# Altium footprint library PCB.PcbLib: 24 footprints (part 2 of 2)
Each footprint in its own frame and in the unit in brackets; x right, y up, seen from the top. Pads: shape width x height; smd on the part's side, far side on the other; paste and mask are expansions set on the pad; w line width, h text height; cw(c..) or ccw(c..) is an arc to the next point about the centre after c.
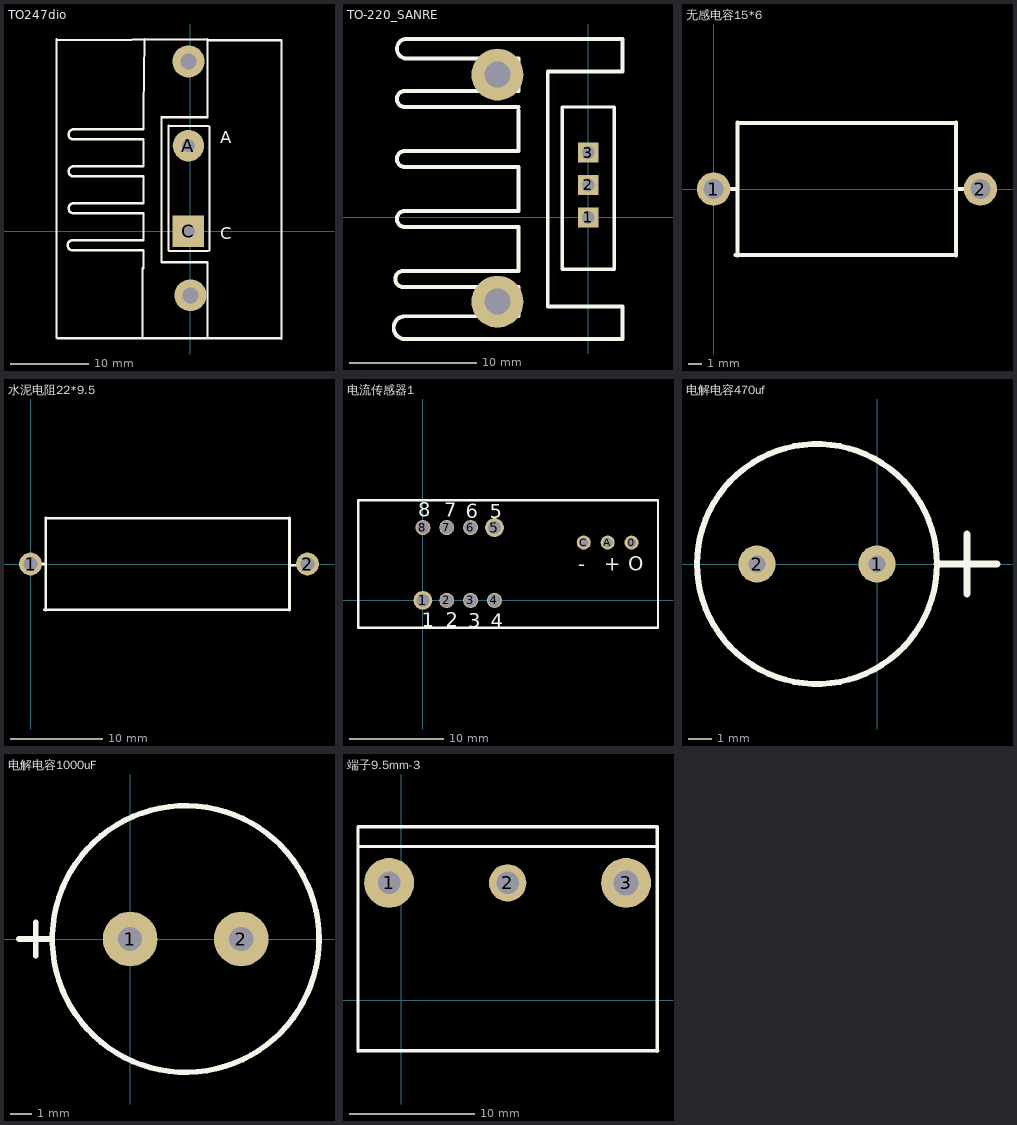
[diagram p1: the footprints below, top view; thin cyan lines are the x and y axes]

## TO247dio [mil]
pads (4):
  round 157.48 hole 62.99: A(-10,428.35)
  rect 157.48x157.48 hole 62.99: C(-10,0)
  round 160 hole 80: ""(-10,850) ""(0,-320)
Top Overlay:
  lines w10: -670,-533.86 -670,962.2 ; -110,-95 -110,530 ; -108.43,-98.43 88.43,-98.43 ; -108.43,526.77 88.43,526.77 ; 95,-95 95,525 ; 455,-538.86 455,957.2
  lines w12: -670,955 85,960 85,570 -145,570 -145,-155 85,-155 85,-535 -665,-535 ; -590,-95 cw(c-590,-70) -590,-45 -235,-45 -235,90 -585,90 cw(c-585,115) -585,140 -235,140 -235,275 -585,275 cw(c-585,300) -585,325 -235,325 -235,450 ; -590,510 -235,510 -235,610 -230,960 ; -585,-95 -240,-95 ; -585,510 ccw(c-585,485) -585,460 -235,460 ; -240,-525 -240,-185 ; -235,-185 -235,-95 ; 80,-535 453.78,-535 ; 85,955 453.78,955
  text "A" at 150,440 h60
  text "C" at 150,-40 h60

## TO-220_SANRE [mil]
pads (5):
  rect 62x62 hole 39.37: 1(0,0) 2(0,100) 3(0,200)
  round 160 hole 80: ""(-280,-260) ""(-280,440)
Top Overlay:
  lines w10: -80,-160 -80,340 80,340 80,-160 -80,-160
  lines w12: -570,-215 cw(c-570,-190) -570,-165 -215,-165 -215,-30 -565,-30 cw(c-565,-5) -565,20 -215,20 -215,155 -565,155 cw(c-565,180) -565,205 -215,205 -215,330 ; -570,390 -215,390 -215,490 -560,490 cw(c-560,520) -560,550 ; -565,-215 -220,-215 ; -565,390 ccw(c-565,365) -565,340 -215,340 ; -555,550 105,550 105,450 -125,450 -125,-275 105,-275 105,-375 -565,-375 cw(c-565,-340) -565,-305 -220,-305 ; -215,-305 -215,-215

## 无感电容15*6 [mm]
pads (2):
  round 2.5 hole 1.5: 1(0,0) 2(20,0)
Top Overlay:
  lines w0.305: 1.016,0 1.778,0 ; 1.651,-4.953 18.034,-4.953 ; 1.778,-5 1.778,5 ; 1.778,4.953 18.161,4.953 ; 18.161,-5 18.161,5 ; 18.161,0 18.923,0

## 水泥电阻22*9.5 [mm]
pads (2):
  round 2.5 hole 1.5: 1(0,0) 2(30,0)
Top Overlay:
  lines w0.305: 0.889,0 1.651,0 ; 1.524,-4.953 27.94,-4.953 ; 1.651,-5 1.651,5 ; 1.651,4.953 28.067,4.953 ; 28.067,-5 28.067,5 ; 28.067,-0.127 28.829,-0.127

## 电流传感器1 [mm]
pads (11):
  round 1.5 hole 1: 0(22.2,6.15) A(19.66,6.15) C(17.12,6.15)
  round 2 hole 1.4: 1(0,0) 5(7.62,7.75)
  round 1.6 hole 1.4: 2(2.54,0) 3(5.08,0) 4(7.62,0) 6(5.08,7.75) 7(2.54,7.75) 8(0,7.75)
Top Overlay:
  lines w0.254: -6.9,-2.9 25,-2.9 ; -6.9,10.65 25,10.65 ; -6.858,-2.921 -6.858,10.668 ; 25.019,-2.921 25.019,10.668
  text "1" at -0.127,-2.794 h1.52
  text "2" at 2.413,-2.794 h1.52
  text "3" at 4.826,-2.921 h1.52
  text "4" at 7.239,-2.921 h1.52
  text "5" at 7.112,8.763 h1.52
  text "6" at 4.572,8.763 h1.52
  text "7" at 2.286,8.89 h1.52
  text "8" at -0.508,8.89 h1.52
  text "-" at 16.51,3.175 h1.52
  text "+" at 19.304,3.175 h1.52
  text "O" at 21.844,3.175 h1.52

## 电解电容470uf [mil] "5.04mm"
pads (2):
  round 62 hole 28: 1(0,0) 2(-200,0)
Top Overlay:
  circle w10: c-100,0 r200
  lines w12: 100,0 200,0 ; 150,-50 150,50

## 电解电容1000uF [mm]
pads (2):
  round 2.5 hole 1.1: 1(0,0) 2(5.08,0)
Top Overlay:
  circle w0.254: c2.54,0 r6.096
  lines w0.254: -5.08,0 -3.556,0 ; -4.318,-0.762 -4.318,0.762

## 端子9.5mm-3 [mm]
pads (3):
  round 4 hole 1.8: 1(-0.966,9.398)
  round 3 hole 1.8: 2(8.534,9.398)
  round 4 hole 2: 3(18.034,9.398)
Top Overlay:
  lines w0.254: -3.466,-4.102 -3.466,13.898 20.534,13.898 20.534,-4.102 ; -3.429,-4.064 11.611,-4.064 ; -3.429,12.319 20.447,12.319 ; 5.588,-4.064 20.588,-4.064